# Altium footprint library PTN5150AHXMP.PcbLib: 1 footprints
Each footprint in its own frame and in the unit in brackets; x right, y up, seen from the top. Pads: shape width x height; smd on the part's side, far side on the other; paste and mask are expansions set on the pad; w line width, h text height; cw(c..) or ccw(c..) is an arc to the next point about the centre after c.
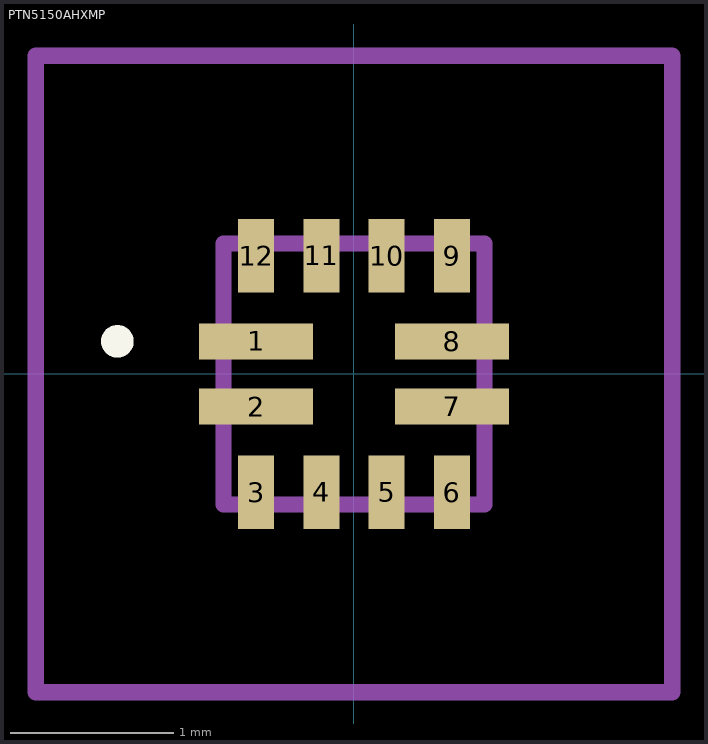
[diagram p0: the footprint, top view; thin cyan lines are the x and y axes]

## PTN5150AHXMP [mm]
pads (12):
  rect 0.7x0.22 smd: 1(-0.6,0.2) 2(-0.6,-0.2) 7(0.6,-0.2) 8(0.6,0.2)
  rect 0.22x0.45 smd: 3(-0.6,-0.725) 4(-0.2,-0.725) 5(0.2,-0.725) 6(0.6,-0.725) 9(0.6,0.725) 10(0.2,0.725) 11(-0.2,0.725) 12(-0.6,0.725)
Top Overlay:
  lines w0.1: -1.5,0.2 cw(c-1.45,0.2) -1.4,0.2 ; -1.5,0.2 -1.5,0.2 ; -1.5,0.2 ccw(c-1.45,0.2) -1.4,0.2 ; -1.4,0.2 -1.4,0.2
Mechanical 15:
  lines w0.1: -0.8,-0.8 0.8,-0.8 0.8,0.8 -0.8,0.8 -0.8,-0.8
Mechanical 20:
  lines w0.1: -1.95,-1.95 1.95,-1.95 1.95,1.95 -1.95,1.95 -1.95,-1.95